# Altium footprint library Cnverter.PcbLib: 105 footprints (part 2 of 7)
Each footprint in its own frame and in the unit in brackets; x right, y up, seen from the top. Pads: shape width x height; smd on the part's side, far side on the other; paste and mask are expansions set on the pad; w line width, h text height; cw(c..) or ccw(c..) is an arc to the next point about the centre after c.
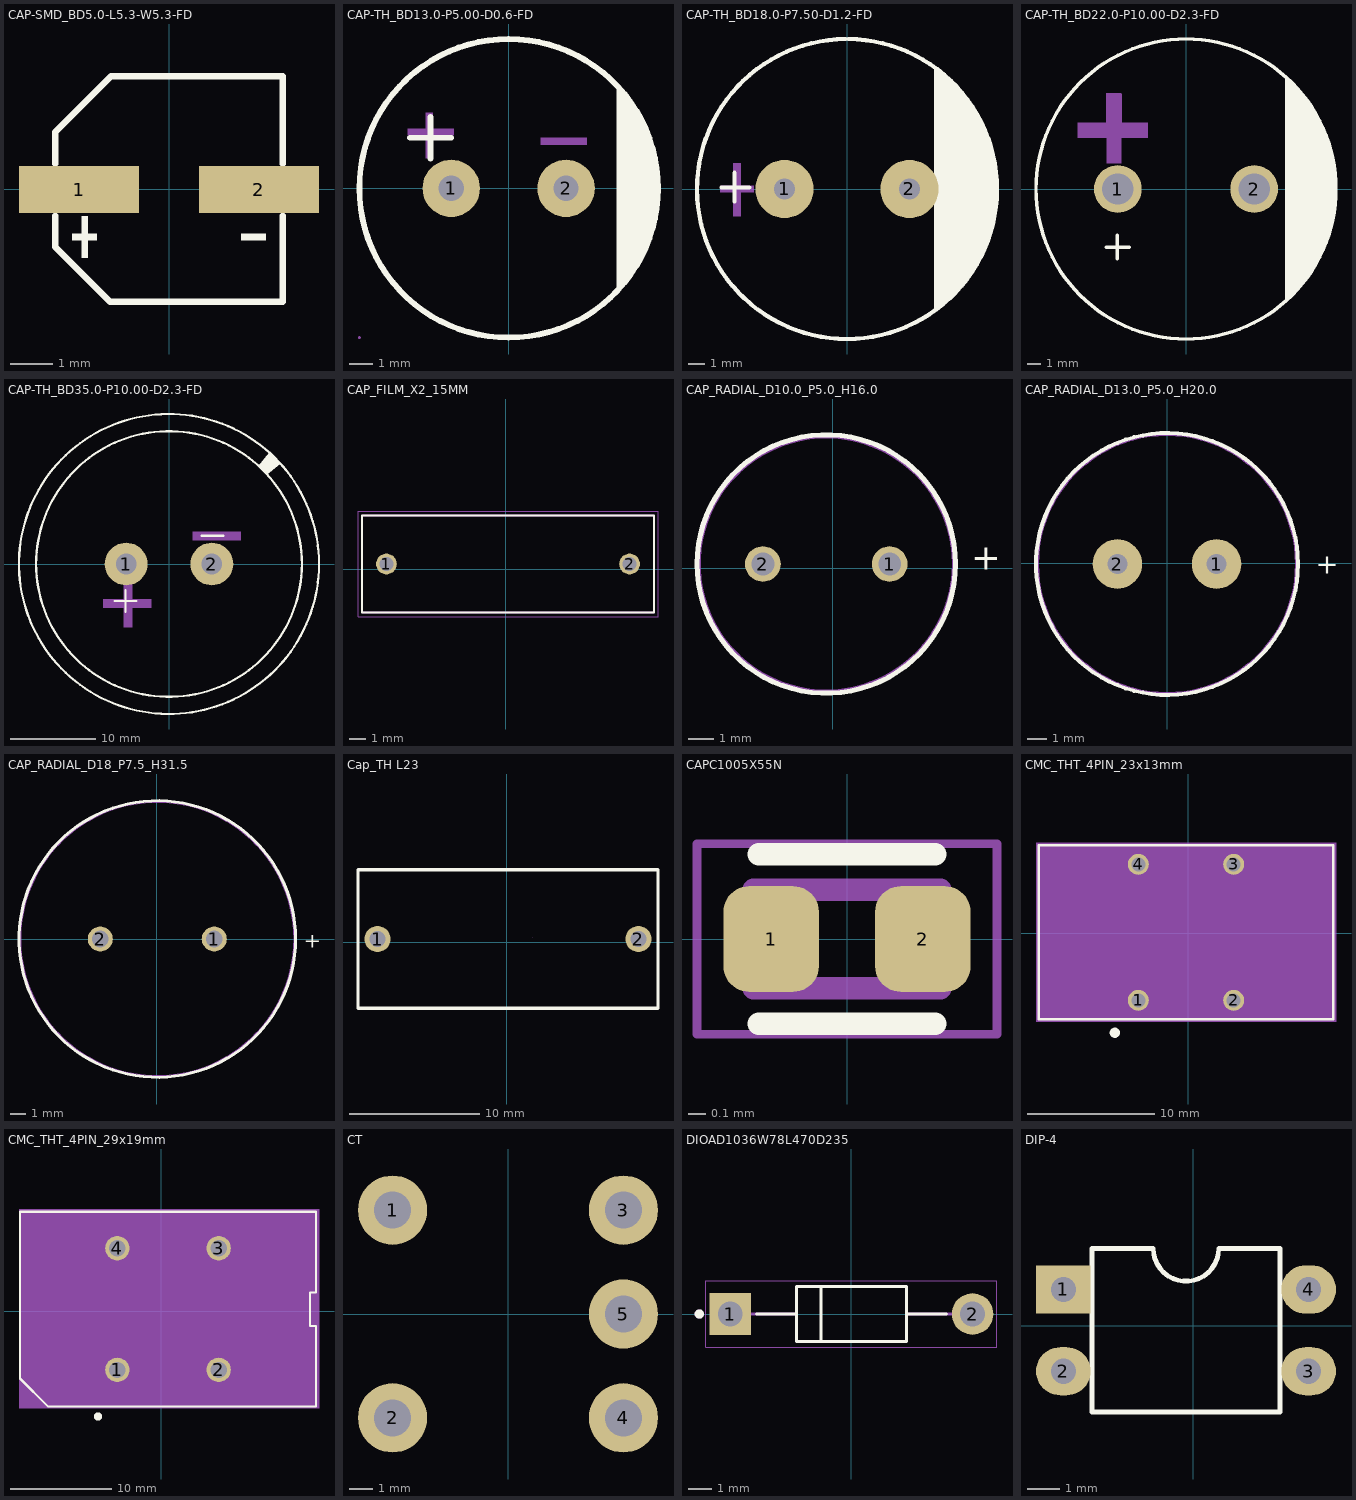
[diagram p1: the footprints below, top view; thin cyan lines are the x and y axes]

## CAP-SMD_BD5.0-L5.3-W5.3-FD [mm]
pads (2):
  rect 2.8x1.1 smd paste+0 mask+0.051: 1(-2.1,-0.015) 2(2.1,-0.015)
Top Overlay:
  region: 2.256,-1.047 2.256,-1.191 1.68,-1.191 1.68,-1.047
  region: -2.256,-1.047 -2.256,-1.191 -1.68,-1.191 -1.68,-1.047
  region: -2.04,-0.639 -2.04,-1.599 -1.896,-1.599 -1.896,-0.639
  lines w0.152: -2.659,-0.622 -2.659,-1.346 -1.372,-2.634 2.649,-2.634 2.649,-0.622 ; -2.659,0.592 -2.659,1.326 -1.349,2.634 2.659,2.634 2.659,0.592
Top Courtyard:
  region: 2.256,0.057 2.256,-0.087 1.68,-0.087 1.68,0.057
  region: -2.256,0.057 -2.256,-0.087 -1.68,-0.087 -1.68,0.057
  region: -2.04,0.465 -2.04,-0.495 -1.896,-0.495 -1.896,0.465
3D body "Download_STP_86508xx4200x+%28rev1%29.stp": height 5.45, standoff -0.05, extent -2.929,-2.665 3.071,2.635

## CAP-TH_BD13.0-P5.00-D0.6-FD [mm]
pads (2):
  round 2.5 hole 1.1: 1(-2.5,0) 2(2.5,0)
Top Overlay:
  circle w0.254: c-0.001,0 r6.5
  region: 4.7,4.3 4.7,-4.5 5.8,-3 6.3,-1.7 6.4,-0.5 6.3,1.5 5.7,3.2
  lines w0.254: -4.301,2.2 -2.501,2.2 ; -3.401,1.3 -3.401,3.1
Mechanical 6:
  region: 4.72,4.286 4.72,-4.514 5.82,-3.014 6.32,-1.714 6.42,-0.514 6.32,1.486 5.72,3.186
  region: -4.4,2.6 -2.5,2.6 -2.4,2.6 -2.4,2.5 -2.4,2.3 -4.4,2.3
  region: -3.6,1.3 -3.6,3.2 -3.6,3.3 -3.5,3.3 -3.3,3.3 -3.3,1.3
  region: 1.4,2.2 3.3,2.2 3.4,2.2 3.4,2.1 3.4,1.9 1.4,1.9
Top Courtyard:
  region: -6.44,-6.5 -6.44,-6.525 -6.475,-6.56 -6.525,-6.56 -6.56,-6.525 -6.56,-6.5 -6.56,-6.475 -6.525,-6.44 -6.475,-6.44 -6.44,-6.475
  region: -2.2,0 -2.2,-0.06 -2.246,-0.17 -2.33,-0.254 -2.44,-0.3 -2.56,-0.3 -2.67,-0.254 -2.754,-0.17 -2.8,-0.06 -2.8,0 -2.8,0.06 -2.754,0.17 -2.67,0.254 -2.56,0.3 -2.44,0.3 -2.33,0.254 -2.246,0.17 -2.2,0.06
  region: 2.8,0 2.8,-0.06 2.754,-0.17 2.67,-0.254 2.56,-0.3 2.44,-0.3 2.33,-0.254 2.246,-0.17 2.2,-0.06 2.2,0 2.2,0.06 2.246,0.17 2.33,0.254 2.44,0.3 2.56,0.3 2.67,0.254 2.754,0.17 2.8,0.06
  lines w0.051: -6.5,0 cw(c0,0) 6.5,0 cw(c0,0) -6.5,0

## CAP-TH_BD18.0-P7.50-D1.2-FD [mm]
pads (2):
  round 3.5 hole 1.25 paste+0 mask+0.051: 1(-3.75,0.001) 2(3.75,0.001)
Top Overlay:
  region: 5.25,-7.249 5.596,-7.004 6.239,-6.45 6.826,-5.837 7.352,-5.171 7.812,-4.457 8.202,-3.704 8.518,-2.916 8.758,-2.102 8.919,-1.269 9,-0.424 9,0.425 8.919,1.27 8.758,2.103 8.518,2.917 8.202,3.705 7.812,4.459 7.352,5.172 6.826,5.838 6.239,6.451 5.596,7.005 5.25,7.251
  lines w0.254: -7.537,0.089 -5.861,0.089 ; -6.75,-0.749 -6.75,0.978 ; -0.079,9 ccw(c0,0) 0.079,9
Top Courtyard:
  region: -7.6,0.201 -5.6,0.201 -5.6,-0.199 -7.6,-0.199
  region: -6.825,1.551 -6.375,1.551 -6.375,-1.599 -6.375,-1.609 -6.383,-1.628 -6.397,-1.642 -6.415,-1.649 -6.425,-1.649 -6.825,-1.649
  region: 5.05,0.201 7.2,0.201 7.2,-0.199 5.05,-0.199
3D body "4700uF 25V Electr 16 x35 -P.diameter 8mm.stp": height 35, standoff -4.1, extent -8,-8 8,8

## CAP-TH_BD22.0-P10.00-D2.3-FD [mm]
pads (2):
  round 3.5 hole 2.3 paste+0 mask+0.051: 1(-5,0) 2(5,0)
Top Overlay:
  circle w0.254: c0,0 r11
  region: 7.28,8.16 7.28,-8.18 7.754,-7.706 8.006,-7.454 8.478,-6.916 8.912,-6.35 9.309,-5.756 9.667,-5.137 9.983,-4.496 10.256,-3.836 10.486,-3.159 10.671,-2.469 10.81,-1.769 10.903,-1.06 10.95,-0.347 10.95,0.01 10.95,0.361 10.904,1.061 10.812,1.757 10.676,2.445 10.494,3.123 10.268,3.788 10,4.436 9.689,5.066 9.338,5.673 8.949,6.257 8.521,6.814 8.059,7.341 7.81,7.59 7.39,8.01
  lines w0.254: -5.842,-4.267 -4.166,-4.267 ; -5.055,-5.105 -5.055,-3.378
Top Courtyard:
  region: -2.82,3.77 -2.82,4.82 -2.82,4.845 -7.89,4.85 -7.93,4.845 -7.93,4.84 -7.93,3.78 -7.93,3.745
  region: -5.808,1.895 -4.758,1.895 -4.733,1.895 -4.727,6.965 -4.733,7.005 -4.738,7.005 -5.797,7.005 -5.833,7.005

## CAP-TH_BD35.0-P10.00-D2.3-FD [mm]
pads (2):
  round 5 hole 2.4 paste+0 mask+0.051: 1(-5,0) 2(5,0)
Top Overlay:
  circle w0.254: c0,0 r17.5
  circle w0.254: c0,0 r15.5
  region: 11.684,12.954 10.414,11.43 11.43,10.414 12.954,11.684
  lines w0.254: -6.35,-4.318 -3.81,-4.318 ; -5.08,-5.588 -5.08,-3.048 ; 3.81,3.302 6.35,3.302
Top Courtyard:
  region: -7.659,-5.112 -7.659,-4.096 -2.071,-4.096 -2.071,-5.112
  region: -4.286,-7.405 -5.302,-7.405 -5.302,-1.817 -4.286,-1.817
  region: 2.767,2.762 2.767,3.778 8.355,3.778 8.355,2.762
3D body "Part1.SLDPRT": height 34.94, standoff -3, extent -14.999,-15 15,15

## CAP_FILM_X2_15MM [mm]
pads (2):
  round 1.28 hole 0.85: 1(-7.367,0.316) 2(7.633,0.316)
Top Overlay:
  lines w0.127: -8.867,-2.684 -8.867,3.316 9.133,3.316 9.133,-2.684 -8.867,-2.684
Top Assembly:
  lines w0.127: -8.867,-2.684 -8.867,3.316 9.133,3.316 9.133,-2.684 -8.867,-2.684
Top Courtyard:
  lines w0.05: -9.117,-2.934 -9.117,3.566 9.383,3.566 9.383,-2.934 -9.117,-2.934
3D body "step_temp.STEP": height 12.1, standoff -27, extent -8.867,-2.684 9.133,3.316

## CAP_RADIAL_D10.0_P5.0_H16.0 [mm]
pads (2):
  round 1.408 hole 0.9 mask+0.102: 1(2.246,0.168) 2(-2.754,0.168)
Top Overlay:
  circle w0.2: c-0.254,0.168 r5.1
  text "+" at 5.464,-0.063 h1.02
Top Assembly:
  circle w0.1: c-0.254,0.168 r5
  text "+" at 5.464,-0.063 h1.02
3D body "Download_STP_86001xx750xx+%28rev1%29.stp": height 15.89, standoff -20.11, extent -5.238,-4.835 4.745,5.164

## CAP_RADIAL_D13.0_P5.0_H20.0 [mm]
pads (2):
  round 2.5 hole 1: 1(2.487,-0.044) 2(-2.513,-0.044)
Top Overlay:
  circle w0.2: c-0.013,-0.044 r6.6
  text "+" at 7.487,-0.544 h1.02
Top Assembly:
  circle w0.1: c-0.013,-0.044 r6.5
  text "+" at 7.487,-0.544 h1.02
3D body "Download_STP_860080x780xx+%28rev1%29.stp": height 19.89, standoff -20.11, extent -6.492,-6.523 6.498,6.474

## CAP_RADIAL_D18_P7.5_H31.5 [mm]
pads (2):
  round 1.65 hole 1.1 mask+0.102: 1(3.786,0.027) 2(-3.714,0.027)
Top Overlay:
  circle w0.2: c0.036,0.027 r9.1
  text "+" at 9.661,-0.552 h1.02
Top Assembly:
  circle w0.1: c0.036,0.027 r9
  text "+" at 9.661,-0.552 h1.02
3D body "Download_STP_86024xx81xxx+%28rev1%29.stp": height 31.59, standoff -19.95, extent -8.957,-8.917 9.033,9.075

## Cap_TH L23 [mm]
pads (2):
  round 2 hole 1.2 paste+0 mask+0.051: 1(-9.897,0.26) 2(10.103,0.26)
Top Overlay:
  lines w0.254: -11.397,-5.04 -11.397,5.56 11.603,5.56 11.603,-5.04 -11.397,-5.04
Top Courtyard:
  lines w0.003: 2.008,0.387 2.009,0.388
3D body "ECQE2225JFW--3DModel-STEP-1.STEP": height 19.3, standoff -7, extent -12.972,-3.933 13.028,4.567

## CAPC1005X55N [mm] "smd component"
pads (2):
  rrect53% 0.54x0.6 smd paste+0 mask+0.102: 1(-0.43,0) 2(0.43,0)
Top Overlay:
  lines w0.127: -0.5,-0.48 0.5,-0.48 ; -0.5,0.48 0.5,0.48
Top Assembly:
  lines w0.127: -0.53,-0.28 0.53,-0.28 0.53,0.28 -0.53,0.28 -0.53,-0.28
Top Courtyard:
  lines w0.05: -0.85,-0.54 0.85,-0.54 0.85,0.54 -0.85,0.54 -0.85,-0.54
3D body "step_temp.STEP": height 0.55, standoff 0, extent -0.5,-0.25 0.5,0.25

## CMC_THT_4PIN_23x13mm [mm]
pads (4):
  round 1.65 hole 1.1 mask+0.102: 1(-3.919,-5.285) 2(3.581,-5.285) 3(3.581,5.415) 4(-3.919,5.415)
Top Overlay:
  circle w0.4: c-5.769,-7.835 r0.2
  lines w0.2: -11.769,-6.785 11.431,-6.785 11.431,6.915 -11.769,6.915 -11.769,-6.785
Top Assembly:
  lines w0.1: -11.669,-6.685 11.331,-6.685 11.331,6.815 -11.669,6.815 -11.669,-6.685
Top Courtyard:
  region: 11.631,-6.985 -11.969,-6.985 -11.969,7.115 11.631,7.115
3D body "step_temp.STEP": height 21.86, standoff -7.6, extent -11.225,-6.437 10.887,6.565

## CMC_THT_4PIN_29x19mm [mm]
pads (4):
  round 2.4 hole 1.6 mask+0.102: 1(-4.335,-5.78) 2(5.665,-5.78) 3(5.665,6.22) 4(-4.335,6.22)
Top Overlay:
  circle w0.4: c-6.235,-10.38 r0.2
  lines w0.2: -13.935,-6.63 -11.185,-9.38 15.265,-9.38 15.265,-1.43 14.665,-1.43 14.665,1.87 15.265,1.87 15.265,9.82 -13.935,9.82 -13.935,-6.63
Top Assembly:
  lines w0.1: -13.835,-6.58 -11.135,-9.28 15.165,-9.28 15.165,-1.53 14.565,-1.53 14.565,1.97 15.165,1.97 15.165,9.72 -13.835,9.72 -13.835,-6.58
Top Courtyard:
  region: 15.562,-9.555 -14.038,-9.555 -14.038,10.045 15.562,10.045
3D body "step_temp.STEP": height 24.64, standoff -5.75, extent -13.086,-8.786 14.414,9.214

## CT [mm]
pads (5):
  round 3 hole 1.6 paste+0 mask+0.051: 1(-5,4.5) 2(-5,-4.5) 3(5,4.5) 4(5,-4.5) 5(5,0)
3D body "!ommonModeChoke2 (1).stp": height 21.37, standoff -3.02, extent -5.32,-10.647 5.32,10.647

## DIOAD1036W78L470D235 [mm]
height 2.7
pads (2):
  rect 1.778x1.778 hole 1.06: 1(-5.18,0)
  round 1.778 hole 1.06: 2(5.18,0)
Top Overlay:
  circle w0.2: c-6.5,0 r0.1
  lines w0.127: -4.065,0 -2.35,0 ; -1.3,-1.1 -1.3,1.1 ; 4.065,0 2.35,0 ; -2.35,0 -2.35,-1.175 2.35,-1.175 2.35,0 ; -2.35,0 -2.35,1.175 2.35,1.175 2.35,0
Top Assembly:
  circle w0.2: c-6.5,0 r0.1
  lines w0.127: -5.18,0 -2.35,0 ; 5.18,0 2.35,0 ; -2.35,0 -2.35,-1.175 2.35,-1.175 2.35,0 ; -2.35,0 -2.35,1.175 2.35,1.175 2.35,0
Top Courtyard:
  lines w0.05: -6.225,-1.425 6.225,-1.425 6.225,1.425 -6.225,1.425 -6.225,-1.425
3D body "step_temp.STEP": height 2.8, standoff -15.3, extent -5.545,-1.4 5.545,1.4

## DIP-4 [mm]
pads (4):
  rect 1.7x1.5 hole 0.78: 1(-4.037,1.12)
  oval 1.7x1.5 hole 0.78: 2(-4.037,-1.42) 3(3.583,-1.42) 4(3.583,1.12)
Top Overlay:
  lines w0.152: -3.148,-2.69 2.694,-2.69 2.694,2.39 0.789,2.39 cw(c-0.227,2.39) -1.243,2.39 -3.148,2.39 -3.148,-2.69
3D body "step_temp.STEP": height 4.55, standoff -3.6, extent -4.162,-2.45 3.708,2.15